# Altium footprint library V6_2.pcblib: 6 footprints
Each footprint in its own frame and in the unit in brackets; x right, y up, seen from the top. Pads: shape width x height; smd on the part's side, far side on the other; paste and mask are expansions set on the pad; w line width, h text height; cw(c..) or ccw(c..) is an arc to the next point about the centre after c.
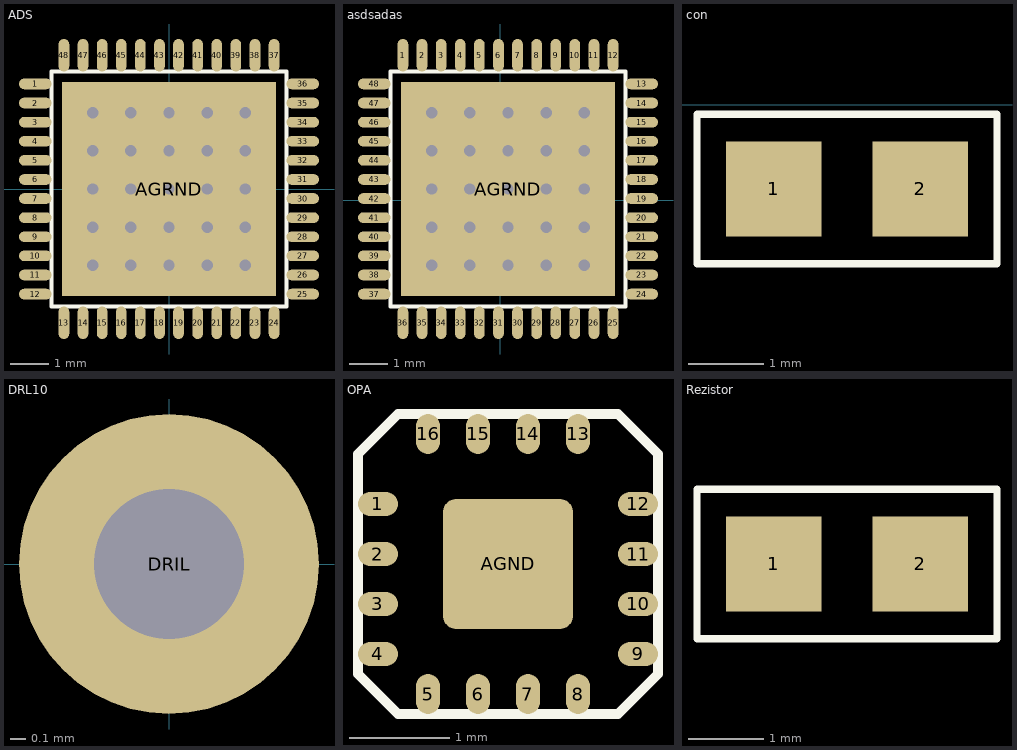
[diagram p0: the footprints below, top view; thin cyan lines are the x and y axes]

## ADS [mm]
pads (49):
  oval 0.85x0.28 smd mask+0.07: 1(-3.5,2.75) 2(-3.5,2.25) 3(-3.5,1.75) 4(-3.5,1.25) 5(-3.5,0.75) 6(-3.5,0.25) 7(-3.5,-0.25) 8(-3.5,-0.75) 9(-3.5,-1.25) 10(-3.5,-1.75) 11(-3.5,-2.25) 12(-3.5,-2.75) 25(3.5,-2.75) 26(3.5,-2.25) 27(3.5,-1.75) 28(3.5,-1.25) 29(3.5,-0.75) 30(3.5,-0.25) 31(3.5,0.25) 32(3.5,0.75) 33(3.5,1.25) 34(3.5,1.75) 35(3.5,2.25) 36(3.5,2.75)
  oval 0.28x0.85 smd mask+0.07: 13(-2.75,-3.5) 14(-2.25,-3.5) 15(-1.75,-3.5) 16(-1.25,-3.5) 17(-0.75,-3.5) 18(-0.25,-3.5) 19(0.25,-3.5) 20(0.75,-3.5) 21(1.25,-3.5) 22(1.75,-3.5) 23(2.25,-3.5) 24(2.75,-3.5) 37(2.75,3.5) 38(2.25,3.5) 39(1.75,3.5) 40(1.25,3.5) 41(0.75,3.5) 42(0.25,3.5) 43(-0.25,3.5) 44(-0.75,3.5) 45(-1.25,3.5) 46(-1.75,3.5) 47(-2.25,3.5) 48(-2.75,3.5)
  rect 5.6x5.6 smd mask+0.1: AGRND(0,0)
via 0,0 diameter 0.7 hole 0.3
via 0,-1 diameter 0.7 hole 0.3
via 0,-2 diameter 0.7 hole 0.3
via -1,-1 diameter 0.7 hole 0.3
via -1,-2 diameter 0.7 hole 0.3
via -2,-2 diameter 0.7 hole 0.3
via -2,-1 diameter 0.7 hole 0.3
via -1,0 diameter 0.7 hole 0.3
via -2,0 diameter 0.7 hole 0.3
via -2,1 diameter 0.7 hole 0.3
via -2,2 diameter 0.7 hole 0.3
via -1,2 diameter 0.7 hole 0.3
via -1,1 diameter 0.7 hole 0.3
via 0,1 diameter 0.7 hole 0.3
via 0,2 diameter 0.7 hole 0.3
via 1,2 diameter 0.7 hole 0.3
via 2,2 diameter 0.7 hole 0.3
via 2,1 diameter 0.7 hole 0.3
via 1,1 diameter 0.7 hole 0.3
via 2,0 diameter 0.7 hole 0.3
via 1,0 diameter 0.7 hole 0.3
via 1,-1 diameter 0.7 hole 0.3
via 2,-1 diameter 0.7 hole 0.3
via 2,-2 diameter 0.7 hole 0.3
via 1,-2 diameter 0.7 hole 0.3
Top Overlay:
  lines w0.1: -3.075,-3.075 -3.075,3.075 3.075,3.075 3.075,-3.075 -3.075,-3.075

## asdsadas [mm]
pads (49):
  oval 0.28x0.85 smd mask+0.07: 1(-2.55,3.8) 2(-2.05,3.8) 3(-1.55,3.8) 4(-1.05,3.8) 5(-0.55,3.8) 6(-0.05,3.8) 7(0.45,3.8) 8(0.95,3.8) 9(1.45,3.8) 10(1.95,3.8) 11(2.45,3.8) 12(2.95,3.8) 25(2.95,-3.2) 26(2.45,-3.2) 27(1.95,-3.2) 28(1.45,-3.2) 29(0.95,-3.2) 30(0.45,-3.2) 31(-0.05,-3.2) 32(-0.55,-3.2) 33(-1.05,-3.2) 34(-1.55,-3.2) 35(-2.05,-3.2) 36(-2.55,-3.2)
  oval 0.85x0.28 smd mask+0.07: 13(3.7,3.05) 14(3.7,2.55) 15(3.7,2.05) 16(3.7,1.55) 17(3.7,1.05) 18(3.7,0.55) 19(3.7,0.05) 20(3.7,-0.45) 21(3.7,-0.95) 22(3.7,-1.45) 23(3.7,-1.95) 24(3.7,-2.45) 37(-3.3,-2.45) 38(-3.3,-1.95) 39(-3.3,-1.45) 40(-3.3,-0.95) 41(-3.3,-0.45) 42(-3.3,0.05) 43(-3.3,0.55) 44(-3.3,1.05) 45(-3.3,1.55) 46(-3.3,2.05) 47(-3.3,2.55) 48(-3.3,3.05)
  rect 5.6x5.6 smd mask+0.1: AGRND(0.2,0.3)
via 1.2,-1.7 diameter 0.7 hole 0.3
via 2.2,-1.7 diameter 0.7 hole 0.3
via 2.2,-0.7 diameter 0.7 hole 0.3
via 1.2,-0.7 diameter 0.7 hole 0.3
via 1.2,0.3 diameter 0.7 hole 0.3
via 2.2,0.3 diameter 0.7 hole 0.3
via 1.2,1.3 diameter 0.7 hole 0.3
via 2.2,1.3 diameter 0.7 hole 0.3
via 2.2,2.3 diameter 0.7 hole 0.3
via 1.2,2.3 diameter 0.7 hole 0.3
via 0.2,2.3 diameter 0.7 hole 0.3
via 0.2,1.3 diameter 0.7 hole 0.3
via -0.8,1.3 diameter 0.7 hole 0.3
via -0.8,2.3 diameter 0.7 hole 0.3
via -1.8,2.3 diameter 0.7 hole 0.3
via -1.8,1.3 diameter 0.7 hole 0.3
via -1.8,0.3 diameter 0.7 hole 0.3
via -0.8,0.3 diameter 0.7 hole 0.3
via -1.8,-0.7 diameter 0.7 hole 0.3
via -1.8,-1.7 diameter 0.7 hole 0.3
via -0.8,-1.7 diameter 0.7 hole 0.3
via -0.8,-0.7 diameter 0.7 hole 0.3
via 0.2,-1.7 diameter 0.7 hole 0.3
via 0.2,-0.7 diameter 0.7 hole 0.3
via 0.2,0.3 diameter 0.7 hole 0.3
Top Overlay:
  lines w0.1: -2.875,-2.775 3.275,-2.775 3.275,3.375 -2.875,3.375 -2.875,-2.775

## con [mm]
pads (2):
  rect 1.27x1.27 smd mask+0.1: 1(4.875,-1.125) 2(6.825,-1.125)
Top Overlay:
  lines w0.1: 3.85,-2.125 3.85,-0.125 5.85,-0.125 7.85,-0.125 7.85,-2.125 3.85,-2.125

## DRL10 [mm]
pads (1):
  round 2 hole 1: DRIL(0,0)

## OPA [mm]
pads (17):
  oval 0.4x0.24 smd mask+0.07: 1(1.5,6) 2(1.5,5.5) 3(1.5,5) 4(1.5,4.5) 9(4.1,4.5) 10(4.1,5) 11(4.1,5.5) 12(4.1,6)
  oval 0.24x0.4 smd mask+0.07: 5(2,4.1) 6(2.5,4.1) 7(3,4.1) 8(3.5,4.1) 13(3.5,6.7) 14(3,6.7) 15(2.5,6.7) 16(2,6.7)
  rrect20% 1.3x1.3 smd mask+0.1: AGND(2.8,5.4)
Top Overlay:
  lines w0.1: 1.3,4.3 1.3,6.5 1.7,6.9 3.9,6.9 4.3,6.5 4.3,4.3 3.9,3.9 1.7,3.9 1.3,4.3

## Rezistor [mm]
pads (2):
  rect 1.27x1.27 smd mask+0.1: 1(12.275,25) 2(14.225,25)
Top Overlay:
  lines w0.1: 11.25,24 11.25,26 13.25,26 15.25,26 15.25,24 11.25,24